# EAGLE library part CONN_2X12_COL (library GPLIB_CONN)
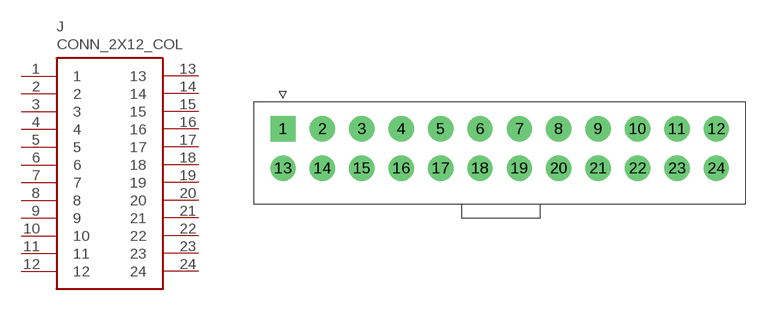
[diagram p16: symbol with the pads of CONN_2X12_4.2MM_TH_ST; footprint CONN_2X12_4.2MM_TH_ST]

Designator prefix J

## CONN_2X12_COL_4.2MM_ST_TH_0039281243  [CONN_2X12_4.2MM_TH_ST]
1  1  pas
2  2  pas
3  3  pas
4  4  pas
5  5  pas
6  6  pas
7  7  pas
8  8  pas
9  9  pas
10  10  pas
11  11  pas
12  12  pas
13  13  pas
14  14  pas
15  15  pas
16  16  pas
17  17  pas
18  18  pas
19  19  pas
20  20  pas
21  21  pas
22  22  pas
23  23  pas
24  24  pas

## Footprint CONN_2X12_4.2MM_TH_ST (pad centres in mm)
drill 1.8 pad 2.4 square: 1 0,-0.65
drill 1.8 pad 2.4: 2 4.2,-0.65; 3 8.4,-0.65; 4 12.6,-0.65; 5 16.8,-0.65; 6 21,-0.65; 7 25.2,-0.65; 8 29.4,-0.65; 9 33.6,-0.65; 10 37.8,-0.65; 11 42,-0.65; 12 46.2,-0.65; 13 0,-4.85; 14 4.2,-4.85; 15 8.4,-4.85; 16 12.6,-4.85; 17 16.8,-4.85; 18 21,-4.85; 19 25.2,-4.85; 20 29.4,-4.85; 21 33.6,-4.85; 22 37.8,-4.85; 23 42,-4.85; 24 46.2,-4.85